# Altium footprint library debugger2.PcbLib: 18 footprints (part 2 of 2)
Each footprint in its own frame and in the unit in brackets; x right, y up, seen from the top. Pads: shape width x height; smd on the part's side, far side on the other; paste and mask are expansions set on the pad; w line width, h text height; cw(c..) or ccw(c..) is an arc to the next point about the centre after c.
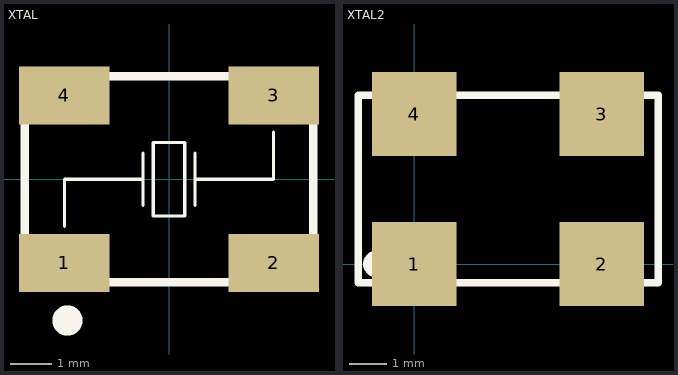
[diagram p1: the footprints below, top view; thin cyan lines are the x and y axes]

## XTAL [mm]
height 1.5
pads (4):
  rect 2.2x1.4 smd: 1(-2.54,-2.032) 2(2.54,-2.032) 3(2.54,2.032) 4(-2.54,2.032)
Top Overlay:
  circle w0.381: c-2.464,-3.429 r0.178
  lines w0.076: -2.54,-1.143 -2.54,0 -0.635,0 ; -0.635,-0.635 -0.635,0.635 ; 0.635,-0.635 0.635,0.635 ; 0.635,0 2.54,0 2.54,1.143 ; -0.381,-0.889 -0.381,0.889 0.381,0.889 0.381,-0.889 -0.381,-0.889
  lines w0.203: -3.5,-2.5 3.5,-2.5 3.5,2.5 -3.5,2.5 -3.5,-2.5
3D body: height 1.5, standoff 0, extent -3.5,-2.5 3.5,2.5

## XTAL2 [mil]
pads (4):
  rect 90x90 smd: 1(0,0) 2(200,0) 3(200,160) 4(0,160)
Top Overlay:
  circle w15: c-40,0 r7
  lines w8: -60,-20 -60,180 260,180 260,-20 -60,-20
3D body: height 59.06, standoff 0, extent -64,-24 264,184